# Altium schematic symbol library CONN MICRO SD CARD PUSH-PUSH R_A.Schlib: 1 symbol
Pins are listed as number, name and electrical type; pins without a type are passive.

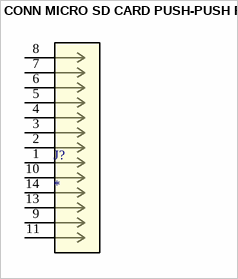
[diagram p0: symbol CONN MICRO SD CARD PUSH-PUSH R/A]

## CONN MICRO SD CARD PUSH-PUSH R/A
designator J?
10 (8 + 2) Position Card Connector Secure Digital - microSD™ Surface Mount, Right Angle Gold
pins: 1, 2, 3, 4, 5, 6, 7, 8, 9, 10, 11, 13, 14